# Altium schematic symbol library Molex Microfit 2.0 4x2.SchLib: 1 symbol
Pins are listed as number, name and electrical type; pins without a type are passive.

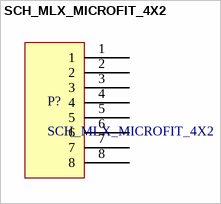
[diagram p0: symbol SCH_MLX_MICROFIT_4X2]

## SCH_MLX_MICROFIT_4X2
designator P?
Molex Microfit Connector 4x2
footprint PCB_MLX_MICROFIT_4X2 (Molex MicroFit 4x2 Connector)
pins: 1, 2, 3, 4, 5, 6, 7, 8